# EAGLE library part 234-212 (library con-wago_234)
Serie 234, Klemmenleiste für Leiterplatten 2 Lötstifte/Pol / Series 234, PCB terminal strip 2 solder pins/pole Polzahl / Pole No.: 12 Rastermaß / Pitch: 2.5 mm Bemessungsspannung / Rated Voltage: 160 V Nennstrom / Nominal Current: 6 A Leiterquerschnitt / Conductor Size: 0.08 - 0.5 mm² Anschlusstechnik / Connection Technology: CAGE CLAMP® Lötstiftlänge: / Solder Pin Length: 4 mm Leitereinführung (zur Platine) / Conductor entry angle (to PCB): 90 ° Farbe / Color: grau / gray Stand: 01.01.2012. Die jeweils aktuellen Daten zu diesem Artikel finden Sie in unserem Produktkatalog, den Sie unter www.wago.com einsehen können. As of: 01/01/2012. Please find the newest data for this article in our product catalogue, which can be viewed under www.wago.com.
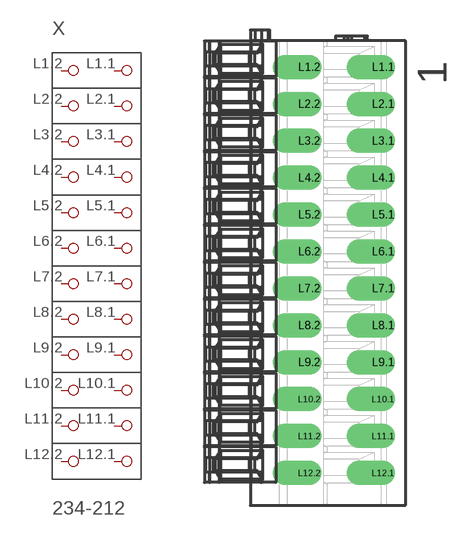
[diagram p8: symbol with the pads of P-234-212; footprint P-234-212]

Designator prefix X

## 234-212  [P-234-212]
L1.1  P1.1
L1.2  P1.2
L2.1  P2.1
L2.2  P2.2
L3.1  P3.1
L3.2  P3.2
L4.1  P4.1
L4.2  P4.2
L5.1  P5.1
L5.2  P5.2
L6.1  P6.1
L6.2  P6.2
L7.1  P7.1
L7.2  P7.2
L8.1  P8.1
L8.2  P8.2
L9.1  P9.1
L9.2  P9.2
L10.1  P10.1
L10.2  P10.2
L11.1  P11.1
L11.2  P11.2
L12.1  P12.1
L12.2  P12.2

## Footprint P-234-212 (pad centres in mm)
drill 1.1 offset: L1.1 5.303,13.6; L1.2 0.303,13.6; L2.1 5.303,11.1; L2.2 0.303,11.1; L3.1 5.303,8.6; L3.2 0.303,8.6; L4.1 5.303,6.1; L4.2 0.303,6.1; L5.1 5.303,3.6; L5.2 0.303,3.6; L6.1 5.303,1.1; L6.2 0.303,1.1; L7.1 5.303,-1.4; L7.2 0.303,-1.4; L8.1 5.303,-3.9; L8.2 0.303,-3.9; L9.1 5.303,-6.4; L9.2 0.303,-6.4; L10.1 5.303,-8.9; L10.2 0.303,-8.9; L11.1 5.303,-11.4; L11.2 0.303,-11.4; L12.1 5.303,-13.9; L12.2 0.303,-13.9